# Altium schematic symbol library Mounting_Hole_M2.SchLib: 1 symbol
Pins are listed as number, name and electrical type; pins without a type are passive.

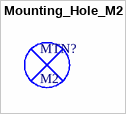
[diagram p0: symbol Mounting_Hole_M2]

## Mounting_Hole_M2
designator MTN?, comment M2
Mechanical Mounting Hole - M2